# Altium footprint library fastcar.PcbLib: 23 footprints (part 2 of 2)
Each footprint in its own frame and in the unit in brackets; x right, y up, seen from the top. Pads: shape width x height; smd on the part's side, far side on the other; paste and mask are expansions set on the pad; w line width, h text height; cw(c..) or ccw(c..) is an arc to the next point about the centre after c.
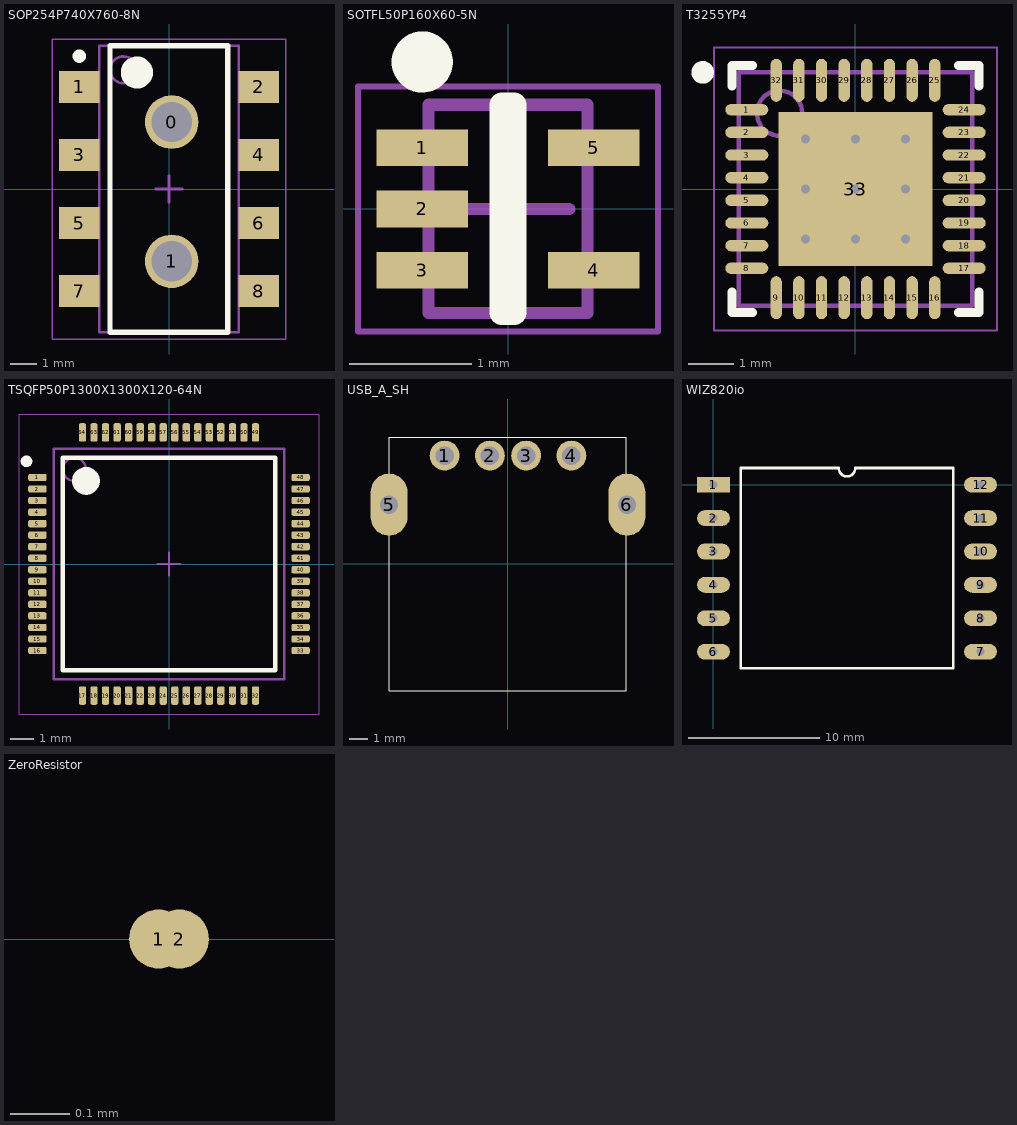
[diagram p1: the footprints below, top view; thin cyan lines are the x and y axes]

## SOP254P740X760-8N [mm] "SOP, 8-Leads, Body 10.66x5.03mm, Pitch 2.54mm, IPC Medium Density"
height 7.6
pads (10):
  round 2 hole 1.5: 0(0.1,2.5) 1(0.1,-2.7)
  rect 1.5x1.2 smd: 1(-3.35,3.81) 2(3.35,3.81) 3(-3.35,1.27) 4(3.35,1.27) 5(-3.35,-1.27) 6(3.35,-1.27) 7(-3.35,-3.81) 8(3.35,-3.81)
Top Overlay:
  circle w0.25: c-3.35,4.96 r0.125
  circle w0.6: c-1.2,4.35 r0.3
  lines w0.2: -2.2,-5.35 -2.2,5.35 2.2,5.35 2.2,-5.35 -2.2,-5.35
Mechanical 13:
  circle w0.1: c-1.7,4.45 r0.5
  lines w0.1: -2.6,-5.35 -2.6,5.35 2.6,5.35 2.6,-5.35 -2.6,-5.35
Mechanical 15:
  lines w0.05: -4.35,-5.6 -4.35,5.6 4.35,5.6 4.35,-5.6 -4.35,-5.6
  lines w0.1: -0.5,0 0.5,0 ; 0,-0.5 0,0.5
3D body: height 7.6, standoff 1.25, extent -2.6,-5.35 2.6,5.35

## SOTFL50P160X60-5N [mm] "SOTFL, 5-Leads, Body 1.60x1.60mm, Pitch 0.50mm, IPC Medium Density"
height 0.6
pads (5):
  rect 0.75x0.3 smd: 1(-0.7,0.5) 2(-0.7,0) 3(-0.7,-0.5) 4(0.7,-0.5) 5(0.7,0.5)
Top Overlay:
  circle w0.25: c-0.7,1.2 r0.125
  lines w0.2: -0.05,-0.85 0.05,-0.85 0.05,0.85 -0.05,0.85 -0.05,-0.85
Mechanical 13:
  lines w0.1: -0.65,-0.85 -0.65,0.85 0.65,0.85 0.65,-0.85 -0.65,-0.85
Mechanical 15:
  lines w0.05: -1.225,-1 -1.225,1 1.225,1 1.225,-1 -1.225,-1
  lines w0.1: -0.5,0 0.5,0 ; 0,-0.5 0,0.5
3D body: height 0.6, standoff 0, extent -0.65,-0.85 0.65,0.85

## T3255YP4 [mm] "Maxim QFN 5X5X.75 21-0140"
height 1
pads (33):
  oval 0.95x0.25 smd: 1(-2.4,1.75) 2(-2.4,1.25) 3(-2.4,0.75) 4(-2.4,0.25) 5(-2.4,-0.25) 6(-2.4,-0.75) 7(-2.4,-1.25) 8(-2.4,-1.75) 17(2.4,-1.75) 18(2.4,-1.25) 19(2.4,-0.75) 20(2.4,-0.25) 21(2.4,0.25) 22(2.4,0.75) 23(2.4,1.25) 24(2.4,1.75)
  oval 0.25x0.95 smd: 9(-1.75,-2.4) 10(-1.25,-2.4) 11(-0.75,-2.4) 12(-0.25,-2.4) 13(0.25,-2.4) 14(0.75,-2.4) 15(1.25,-2.4) 16(1.75,-2.4) 25(1.75,2.4) 26(1.25,2.4) 27(0.75,2.4) 28(0.25,2.4) 29(-0.25,2.4) 30(-0.75,2.4) 31(-1.25,2.4) 32(-1.75,2.4)
  rect 3.4x3.4 smd: 33(0,0)
via 1.1,-1.1 diameter 0.5 hole 0.2
via 0,-1.1 diameter 0.5 hole 0.2
via -1.1,-1.1 diameter 0.5 hole 0.2
via 1.1,0 diameter 0.5 hole 0.2
via 0,0 diameter 0.5 hole 0.2
via -1.1,0 diameter 0.5 hole 0.2
via 1.1,1.1 diameter 0.5 hole 0.2
via 0,1.1 diameter 0.5 hole 0.2
via -1.1,1.1 diameter 0.5 hole 0.2
Top Overlay:
  circle w0.25: c-3.375,2.575 r0.125
  lines w0.2: -2.725,-2.275 -2.725,-2.725 -2.275,-2.725 ; -2.725,2.275 -2.725,2.725 -2.275,2.725 ; 2.275,-2.725 2.725,-2.725 2.725,-2.275 ; 2.275,2.725 2.725,2.725 2.725,2.275
Mechanical 13:
  circle w0.1: c-1.675,1.675 r0.5
  lines w0.1: -2.575,-2.575 2.575,-2.575 2.575,2.575 -2.575,2.575 -2.575,-2.575
Mechanical 15:
  lines w0.05: -3.125,-3.125 3.125,-3.125 3.125,3.125 -3.125,3.125 -3.125,-3.125
  lines w0.1: -0.5,0 0.5,0 ; 0,-0.5 0,0.5
3D body: height 1, standoff 0.01, extent -2.575,-2.575 2.575,2.575

## TSQFP50P1300X1300X120-64N [mm] "TSQFP, 64-Leads, Body 10.00x10.00mm, Pitch 0.50mm, IPC Medium Density"
height 1.2
pads (64):
  rrect50% 0.8x0.32 smd: 1(-5.7,3.75) 2(-5.7,3.25) 3(-5.7,2.75) 4(-5.7,2.25) 5(-5.7,1.75) 6(-5.7,1.25) 7(-5.7,0.75) 8(-5.7,0.25) 9(-5.7,-0.25) 10(-5.7,-0.75) 11(-5.7,-1.25) 12(-5.7,-1.75) 13(-5.7,-2.25) 14(-5.7,-2.75) 15(-5.7,-3.25) 16(-5.7,-3.75) 33(5.7,-3.75) 34(5.7,-3.25) 35(5.7,-2.75) 36(5.7,-2.25) 37(5.7,-1.75) 38(5.7,-1.25) 39(5.7,-0.75) 40(5.7,-0.25) 41(5.7,0.25) 42(5.7,0.75) 43(5.7,1.25) 44(5.7,1.75) 45(5.7,2.25) 46(5.7,2.75) 47(5.7,3.25) 48(5.7,3.75)
  rrect50% 0.32x0.8 smd: 17(-3.75,-5.7) 18(-3.25,-5.7) 19(-2.75,-5.7) 20(-2.25,-5.7) 21(-1.75,-5.7) 22(-1.25,-5.7) 23(-0.75,-5.7) 24(-0.25,-5.7) 25(0.25,-5.7) 26(0.75,-5.7) 27(1.25,-5.7) 28(1.75,-5.7) 29(2.25,-5.7) 30(2.75,-5.7) 31(3.25,-5.7) 32(3.75,-5.7) 49(3.75,5.7) 50(3.25,5.7) 51(2.75,5.7) 52(2.25,5.7) 53(1.75,5.7) 54(1.25,5.7) 55(0.75,5.7) 56(0.25,5.7) 57(-0.25,5.7) 58(-0.75,5.7) 59(-1.25,5.7) 60(-1.75,5.7) 61(-2.25,5.7) 62(-2.75,5.7) 63(-3.25,5.7) 64(-3.75,5.7)
Top Overlay:
  circle w0.25: c-6.175,4.45 r0.125
  circle w0.6: c-3.6,3.6 r0.3
  lines w0.2: -4.6,-4.6 -4.6,4.6 4.6,4.6 4.6,-4.6 -4.6,-4.6
Mechanical 13:
  circle w0.1: c-4.1,4.1 r0.5
  lines w0.1: -5,-5 -5,5 5,5 5,-5 -5,-5
Mechanical 15:
  lines w0.05: -6.5,-6.5 -6.5,6.5 6.5,6.5 6.5,-6.5 -6.5,-6.5
  lines w0.1: -0.5,0 0.5,0 ; 0,-0.5 0,0.5

## USB_A_SH [mil] "USB_A_SH"
pads (6):
  round 65 hole 40 mask+2: 1(-137.1,235.7) 2(-38.7,235.7) 3(40.1,235.7) 4(138.5,235.7)
  oval 80x135 hole 40 mask+2: 5(-258,129) 6(259.4,129)
Top Overlay:
  lines w1: -258,-275.7 257.8,-275.7 257.8,275.5 -258,275.5 -258,-275.7

## WIZ820io [mm]
pads (12):
  rect 2.5x1.2 hole 0.6: 1(0,0)
  oval 2.5x1.2 hole 0.6: 2(0,-2.54) 3(0,-5.08) 4(0,-7.62) 5(0,-10.16) 6(0,-12.7) 7(20.32,-12.7) 8(20.32,-10.16) 9(20.32,-7.62) 10(20.32,-5.08) 11(20.32,-2.54) 12(20.32,0)
Top Overlay:
  lines w0.2: 2.085,-13.97 18.235,-13.97 18.235,1.27 10.795,1.27 cw(c10.16,1.27) 9.525,1.27 2.085,1.27 2.085,-13.97

## ZeroResistor [mm]
pads (2):
  round 0.1 smd paste+0 mask+0.102: 1(-0.635,0)
  round 0.1 smd paste+0: 2(-0.6,0)